# Altium footprint library openmv-ae3.PcbLib: 51 footprints (part 4 of 4)
Each footprint in its own frame and in the unit in brackets; x right, y up, seen from the top. Pads: shape width x height; smd on the part's side, far side on the other; paste and mask are expansions set on the pad; w line width, h text height; cw(c..) or ccw(c..) is an arc to the next point about the centre after c.
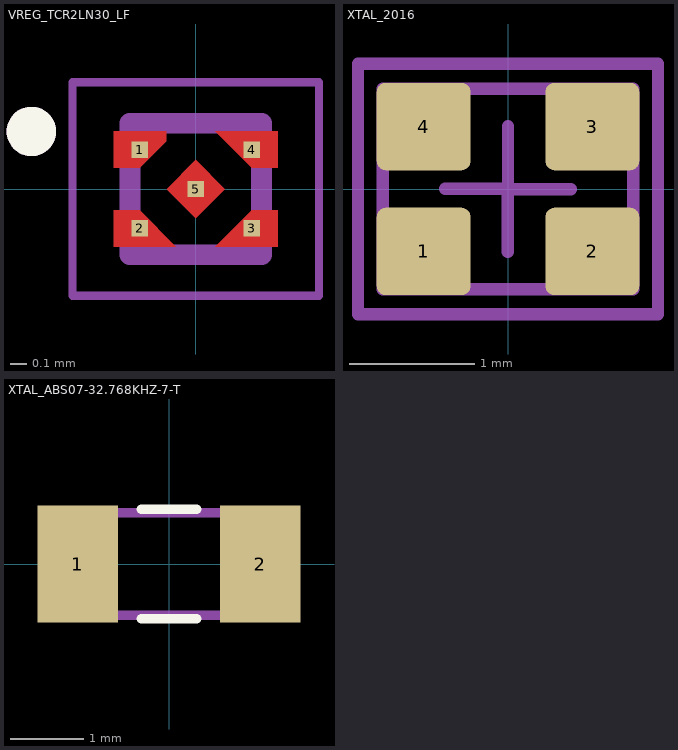
[diagram p3: the footprints below, top view; thin cyan lines are the x and y axes]

## VREG_TCR2LN30_LF [mm]
height 0.4
pads (5):
  rect 0.1x0.1 smd paste-1 mask+0: 1(-0.34,0.24) 2(-0.34,-0.24) 3(0.34,-0.24) 4(0.34,0.24) 5(0,0)
Top Layer:
  region: 0.177,0 0,-0.177 -0.177,0 0,0.177
  region: -0.12,-0.35 -0.5,-0.35 -0.5,-0.13 -0.34,-0.13
  region: 0.5,0.13 0.34,0.13 0.12,0.35 0.5,0.35
  region: 0.5,-0.35 0.12,-0.35 0.34,-0.13 0.5,-0.13
  region: -0.18,0.29 -0.34,0.13 -0.5,0.13 -0.5,0.35 -0.18,0.35
Top Overlay:
  circle w0.15: c-1,0.35 r0.075
Top Paste:
  region: 0.177,0 0,-0.177 -0.177,0 0,0.177
  region: -0.12,-0.35 -0.5,-0.35 -0.5,-0.13 -0.34,-0.13
  region: 0.5,0.13 0.34,0.13 0.12,0.35 0.5,0.35
  region: 0.5,-0.35 0.12,-0.35 0.34,-0.13 0.5,-0.13
  region: -0.18,0.29 -0.34,0.13 -0.5,0.13 -0.5,0.35 -0.18,0.35
Top Solder:
  region: 0.247,0 0,-0.247 -0.247,0 0,0.247
  region: -0.02,-0.4 -0.55,-0.4 -0.55,-0.08 -0.34,-0.08
  region: 0.55,0.08 0.34,0.08 0.02,0.4 0.55,0.4
  region: 0.55,-0.4 0.02,-0.4 0.34,-0.08 0.55,-0.08
  region: -0.13,0.29 -0.34,0.08 -0.55,0.08 -0.55,0.4 -0.13,0.4
Mechanical 13:
  lines w0.05: -0.75,-0.65 -0.75,0.65 0.75,0.65 0.75,-0.65 -0.75,-0.65
Mechanical 15:
  circle w0.15: c-1,0.35 r0.075
  lines w0.127: -0.4,-0.4 0.4,-0.4 0.4,0.4 -0.4,0.4 -0.4,-0.4
3D body: height 0.4, standoff 0, extent -0.399,-0.399 0.399,0.399

## XTAL_2016 [mm] "2.0x1.6mm"
pads (4):
  rrect20% 0.75x0.7 smd mask+0.05: 1(-0.675,-0.5) 2(0.675,-0.5) 3(0.675,0.5) 4(-0.675,0.5)
Top 3D Body:
  circle w0.1: c-0.6,-0.4 r0.1
  lines w0.1: -0.5,0 0,0 ; 0,-0.5 0,0 ; 0,0.5 0,0 ; 0.5,0 0,0 ; 0,0 0,0 ; -1,-0.8 1,-0.8 1,0.8 -1,0.8 -1,-0.8
  text ".designator" at -0.8,1 h0.4
Top Courtyard:
  circle w0.1: c-0.6,-0.4 r0.1
  lines w0.1: -0.5,0 0,0 ; 0,-0.5 0,0 ; 0,0.5 0,0 ; 0.5,0 0,0 ; 0,0 0,0 ; -1.2,-1 -1.2,1 1.2,1 1.2,-1 -1.2,-1
3D body: height 0.65, standoff 0, extent -1,-0.8 1,0.8

## XTAL_ABS07-32.768KHZ-7-T [mm] "XTAL_ABS07-32.768KHZ-7-T"
pads (2):
  rect 1.1x1.6 smd: 1(-1.25,0) 2(1.25,0)
Top Overlay:
  lines w0.127: -0.38,-0.75 0.38,-0.75 ; -0.38,0.75 0.38,0.75
Top 3D Body:
  lines w0.127: -1.6,-0.7 1.6,-0.7 1.6,0.7 -1.6,0.7 -1.6,-0.7
  text ".designator" at -1.4,-0.85 h0.64
3D body: height 1, standoff 0, extent -1.6,-0.7 1.6,0.7